# EAGLE library part TPS92515QDGQTQ1 (library Labops_Lib_AH)
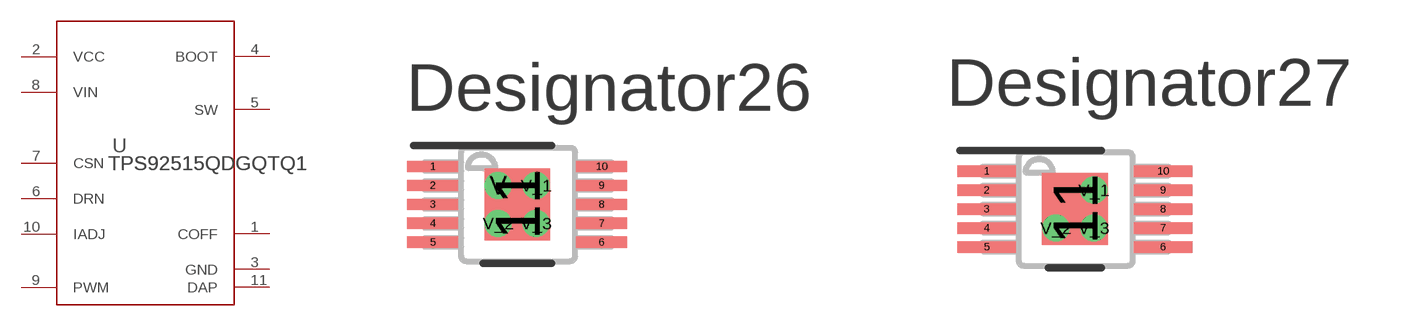
[diagram p86: symbol with the pads of DGQ0010A_N; footprints DGQ0010A_N, DGQ0010A_M]

Designator prefix U

## TPS92515QDGQTQ1DGQ0010A_N (COPYRIGHT: Copyright (C) 2023 Ultra Librarian. All rights reserved.; MANUFACTURER_PART_NUMBER: TPS92515QDGQTQ1; MFR_NAME: Texas Instruments; REFDES: RefDes; TYPE: TYPE)  [DGQ0010A_N]
1  COFF  pas
2  VCC  pwr
3  GND  pwr
4  BOOT  pwr
5  SW  pwr
6  DRN  pas
7  CSN  in
8  VIN  pwr
9  PWM  in
10  IADJ  in
11  DAP  pwr

## TPS92515QDGQTQ1DGQ0010A_M (COPYRIGHT: Copyright (C) 2023 Ultra Librarian. All rights reserved.; DESCRIPTION: LED Driver 2A, 42V, Buck, Analog and PWM Dimming,MSOP-PowerPad-10; MFN: TPS92515QDGQTQ1; MFR: Texas Instruments; PART_VALUE: TPS92515; REFDES: RefDes; TYPE: TYPE)  [DGQ0010A_M]
Pads as for DGQ0010A_N

## TPS92515QDGQTQ1DGQ0010A_L (COPYRIGHT: Copyright (C) 2023 Ultra Librarian. All rights reserved.; MANUFACTURER_PART_NUMBER: TPS92515QDGQTQ1; MFR_NAME: Texas Instruments; REFDES: RefDes; TYPE: TYPE)  [DGQ0010A_L]
Pads as for DGQ0010A_N

## Footprint DGQ0010A_N (pad centres in mm)
smd 1.35 x 0.3: 1 -2.225,1; 2 -2.225,0.5; 3 -2.225,0; 4 -2.225,-0.5; 5 -2.225,-1; 6 2.225,-1; 7 2.225,-0.5; 8 2.225,0; 9 2.225,0.5; 10 2.225,1
smd 1.73 x 1.9: 11 0,0
drill 0.203 pad 0.5: V -0.5,0.5; V_1 0.5,0.5; V_2 -0.5,-0.5; V_3 0.5,-0.5

## Footprint DGQ0010A_M (pad centres in mm)
smd 1.55 x 0.3: 1 -2.325,1; 2 -2.325,0.5; 3 -2.325,0; 4 -2.325,-0.5; 5 -2.325,-1; 6 2.325,-1; 7 2.325,-0.5; 8 2.325,0; 9 2.325,0.5; 10 2.325,1
smd 1.73 x 1.9: 11 0,0
drill 0.203 pad 0.5: V_1 0.5,0.5; V_2 -0.5,-0.5; V_3 0.5,-0.5

## Footprint DGQ0010A_L (pad centres in mm)
smd 1.15 x 0.25: 1 -2.125,1; 2 -2.125,0.5; 3 -2.125,0; 4 -2.125,-0.5; 5 -2.125,-1; 6 2.125,-1; 7 2.125,-0.5; 8 2.125,0; 9 2.125,0.5; 10 2.125,1
smd 1.73 x 1.9: 11 0,0
drill 0.203 pad 0.5: V_1 -0.5,-0.5; V_2 0.5,0.5; V_3 -0.5,0.5